# EAGLE library part MICRO_SD (library connectors)
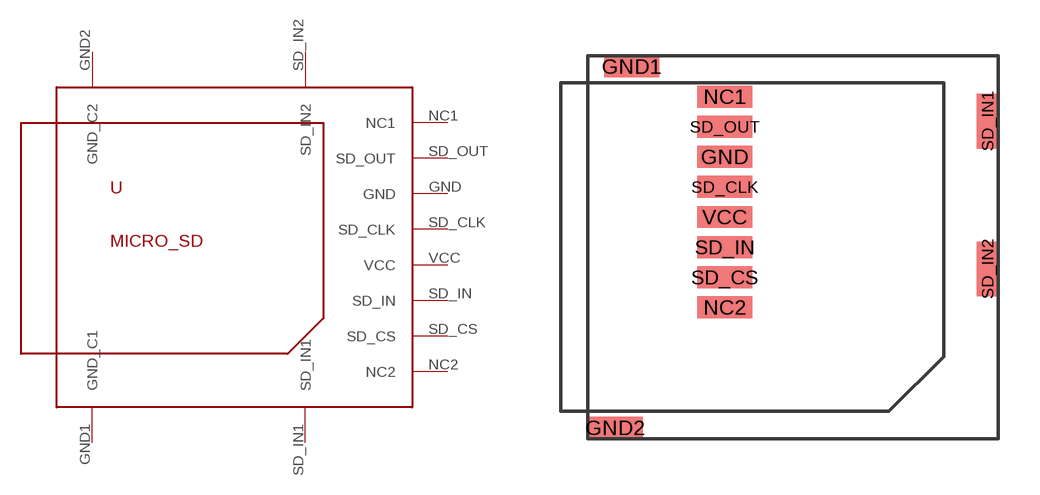
[diagram p1: symbol with the pads of MICRO_SD_TFCMF20801B0T0; footprint MICRO_SD_TFCMF20801B0T0]

Designator prefix -

## MICRO_SDKINGSTON  [MICRO_SD_TFCMF20801B0T0]
GND  GND  pwr
GND1  GND_C1  pas
GND2  GND_C2  pas
NC1  NC1  nc
NC2  NC2  nc
SD_CLK  SD_CLK
SD_CS  SD_CS
SD_IN  SD_IN
SD_IN1  SD_IN1  pas
SD_IN2  SD_IN2  pas
SD_OUT  SD_OUT
VCC  VCC  pwr

## Footprint MICRO_SD_TFCMF20801B0T0 (pad centres in mm)
smd 2 x 0.8: GND 3.3,-1.3; GND1 -0.1,2; GND2 -0.7,-11.2; NC1 3.3,0.9; NC2 3.3,-6.8; SD_CLK 3.3,-2.4; SD_CS 3.3,-5.7; SD_IN 3.3,-4.6; SD_OUT 3.3,-0.2; VCC 3.3,-3.5
smd 0.8 x 2: SD_IN1 12.9,0; SD_IN2 12.9,-5.4